# EAGLE library part MC34673 (library BitFit)
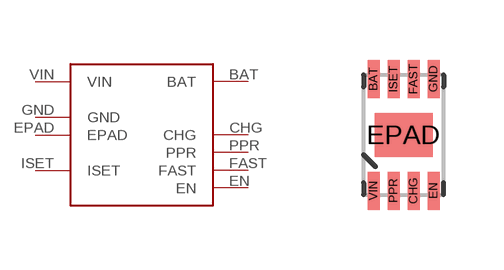
[diagram p4: symbol with the pads of UDFN-8; footprint UDFN-8]

Designator prefix -

## MC34673  [UDFN-8]
BAT  BAT
CHG  CHG
EN  EN
EPAD  EPAD
FAST  FAST
GND  GND
ISET  ISET
PPR  PPR
VIN  VIN

## Footprint UDFN-8 (pad centres in mm)
smd 0.3 x 0.95: BAT -0.75,1.4; CHG 0.25,-1.4; EN 0.75,-1.4; FAST 0.25,1.4; GND 0.75,1.4; ISET -0.25,1.4; PPR -0.25,-1.4; VIN -0.75,-1.4
smd 1.45 x 1.1: EPAD 0,0